# Altium integrated library GatorSynth_Step_Sequencer.IntLib: 2 symbols
Pins are listed as number, name and electrical type; pins without a type are passive.

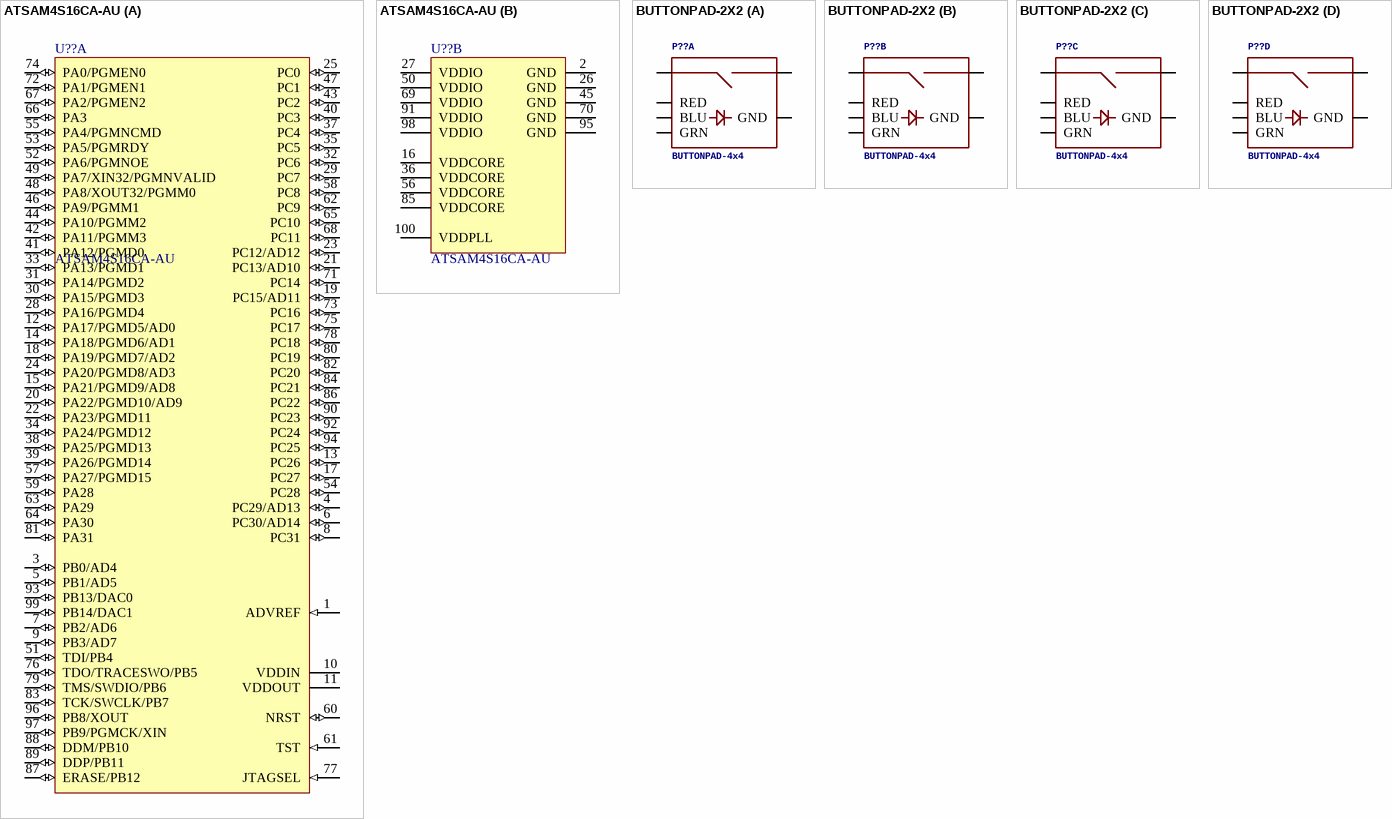
[diagram p0: symbols ATSAM4S16CA-AU to BUTTONPAD-2X2]

## ATSAM4S16CA-AU
designator U??
AT91 ARM Cortex-M4 32-bit Microcontroller, 1MB Flash, 128KB SRAM, USB, 79 User I/Os, 100-Pin LQFP, Industrial Grade (-40°C to 105°C), Pb-Free; DatasheetVersion: revA, Oct-2011; PackageVersion: Apr-2006; PackageReference: LQFP100; PackageDescription: 100-Pin Thin Quad Flat Pack 0.5 mm Pitch; Code_JEDEC: MS-026-BED; ComponentLink1Description: Manufacturer URL; ComponentLink1URL: http://www.atmel.com/; ComponentLink2Description: SAM4S Series Datasheet; ComponentLink2URL: http://www.atmel.com/dyn/resources/prod_documents/11100.pdf; ComponentLink3Description: SAM4S Series Summary; ComponentLink3URL: http://www.atmel.com/dyn/resources/prod_documents/11100S.pdf
footprint LQFP100_N (Thin QFP, 100-Leads, Body 14x14mm, Pitch 0.5mm, IPC Medium Density)
footprint LQFP100_L (Thin QFP, 100-Leads, Body 14x14mm, Pitch 0.5mm, IPC High Density)
footprint LQFP100_M (Thin QFP, 100-Leads, Body 14x14mm, Pitch 0.5mm, IPC Low Density)
footprint BUTTONPAD-2X2
part A pins: 1 ADVREF (in), 3 PB0/AD4 (io), 4 PC29/AD13 (io), 5 PB1/AD5 (io), 6 PC30/AD14 (io), 7 PB2/AD6 (io), 8 PC31 (io), 9 PB3/AD7 (io), 10 VDDIN (power), 11 VDDOUT (power), 12 PA17/PGMD5/AD0 (io), 13 PC26 (io), 14 PA18/PGMD6/AD1 (io), 15 PA21/PGMD9/AD8 (io), 17 PC27 (io), 18 PA19/PGMD7/AD2 (io), 19 PC15/AD11 (io), 20 PA22/PGMD10/AD9 (io), 21 PC13/AD10 (io), 22 PA23/PGMD11 (io), 23 PC12/AD12 (io), 24 PA20/PGMD8/AD3 (io), 25 PC0 (io), 28 PA16/PGMD4 (io), 29 PC7 (io), 30 PA15/PGMD3 (io), 31 PA14/PGMD2 (io), 32 PC6 (io), 33 PA13/PGMD1 (io), 34 PA24/PGMD12 (io), 35 PC5 (io), 37 PC4 (io), 38 PA25/PGMD13 (io), 39 PA26/PGMD14 (io), 40 PC3 (io), 41 PA12/PGMD0 (io), 42 PA11/PGMM3 (io), 43 PC2 (io), 44 PA10/PGMM2 (io), 46 PA9/PGMM1 (io), 47 PC1 (io), 48 PA8/XOUT32/PGMM0 (io), 49 PA7/XIN32/PGMNVALID (io), 51 TDI/PB4 (io), 52 PA6/PGMNOE (io), 53 PA5/PGMRDY (io), 54 PC28 (io), 55 PA4/PGMNCMD (io), 57 PA27/PGMD15 (io), 58 PC8 (io), 59 PA28 (io), 60 NRST (io), 61 TST (in), 62 PC9 (io), 63 PA29 (io), 64 PA30 (io), 65 PC10 (io), 66 PA3 (io), 67 PA2/PGMEN2 (io), 68 PC11 (io), 71 PC14 (io), 72 PA1/PGMEN1 (io), 73 PC16 (io), 74 PA0/PGMEN0 (io), 75 PC17 (io), 76 TDO/TRACESWO/PB5 (io), 77 JTAGSEL (in), 78 PC18 (io), 79 TMS/SWDIO/PB6 (io), 80 PC19 (io), 81 PA31 (io), 82 PC20 (io), 83 TCK/SWCLK/PB7 (io), 84 PC21 (io), 86 PC22 (io), 87 ERASE/PB12 (io), 88 DDM/PB10 (io), 89 DDP/PB11 (io), 90 PC23 (io), 92 PC24 (io), 93 PB13/DAC0 (io), 94 PC25 (io), 96 PB8/XOUT (io), 97 PB9/PGMCK/XIN (io), 99 PB14/DAC1 (io)
part B pins: 2 GND (power), 16 VDDCORE (power), 26 GND (power), 27 VDDIO (power), 36 VDDCORE (power), 45 GND (power), 50 VDDIO (power), 56 VDDCORE (power), 69 VDDIO (power), 70 GND (power), 85 VDDCORE (power), 91 VDDIO (power), 95 GND (power), 98 VDDIO (power), 100 VDDPLL (power)

## BUTTONPAD-2X2
designator P??, comment BUTTONPAD-4x4
5mm Button PadProven layout and schematic for 2x2 button pad. Panelize this device/fp to a 4x4 pad if needed. Spark Fun Electronics SKU : COM-07835. Compatible common cathode tri-color LED SKU : COM-00105
footprint BUTTONPAD-2X2
part A pins: BLU1 BLU, GND1 GND, GRN1 GRN, RED1 RED, SIG1, SIG2
part B pins: BLU2 BLU, GND2 GND, GRN2 GRN, RED2 RED, SIG3 SIG1, SIG4 SIG2
part C pins: BLU3 BLU, GND3 GND, GRN3 GRN, RED3 RED, SIG5 SIG1, SIG6 SIG2
part D pins: BLU4 BLU, GND4 GND, GRN4 GRN, RED4 RED, SIG7 SIG1, SIG8 SIG2